# Altium footprint library 826629-7-Footprint-1.PcbLib: 1 footprints
Each footprint in its own frame and in the unit in brackets; x right, y up, seen from the top. Pads: shape width x height; smd on the part's side, far side on the other; paste and mask are expansions set on the pad; w line width, h text height; cw(c..) or ccw(c..) is an arc to the next point about the centre after c.
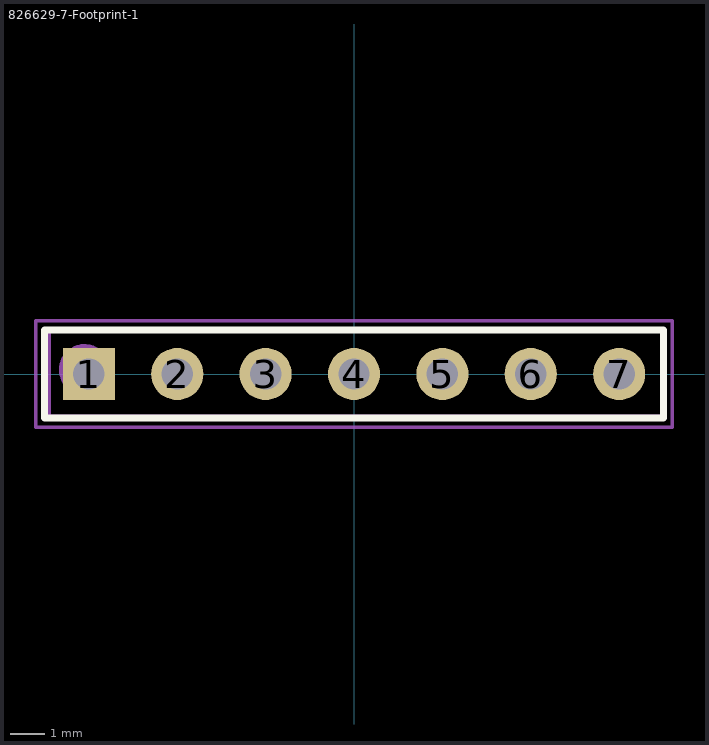
[diagram p0: the footprint, top view; thin cyan lines are the x and y axes]

## 826629-7-Footprint-1 [mm]
pads (7):
  rect 1.5x1.5 hole 0.9: 1(-7.62,0)
  round 1.5 hole 0.9: 2(-5.08,0) 3(-2.54,0) 4(0,0) 5(2.54,0) 6(5.08,0) 7(7.62,0)
Top Overlay:
  lines w0.2: -8.89,-1.27 1.27,-1.27 8.89,-1.27 8.89,1.27 1.27,1.27 -8.89,1.27 -8.89,-1.27
Top Assembly:
  circle w0.2: c-7.747,0.127 r0.635
  lines w0.15: -8.79,-1.246 8.89,-1.246 8.89,1.253 -8.79,1.253 -8.79,-1.246
Top Courtyard:
  lines w0.1: -9.144,-1.524 1.524,-1.524 9.144,-1.524 9.144,1.524 1.524,1.524 -9.144,1.524 -9.144,-1.524
  lines w0.127: -0.381,0 0.381,0 ; 0,-0.381 0,0.381
3D body "pin_header_aw140-eg-g03d.stp": height 8.2, standoff -3, extent 1.37,-1.246 8.99,1.253
3D body "pin_header_aw140-eg-g04d.stp": height 8.2, standoff -3, extent -8.79,-1.246 1.37,1.253